# Altium schematic symbol library DF23C-10DS-0.5V(51).SchLib: 1 symbol
Pins are listed as number, name and electrical type; pins without a type are passive.

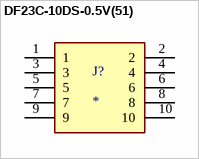
[diagram p0: symbol DF23C-10DS-0.5V(51)]

## DF23C-10DS-0.5V(51)
designator J?
10 Position Connector Receptacle, Center Strip Contacts Surface Mount Gold; MF: {'manufacturer': u'Hirose Connector'}; MP: DF23C-10DS-0.5V(51); Price: None; Value: *; Availability: Unavailable; Package: None
footprint HIROSE_DF23C-10DS-0.5V(51)
pins: 1, 2, 3, 4, 5, 6, 7, 8, 9, 10